# Altium schematic symbol library SCH - DIODES - SCHOTTKY_BAT54WS-7-F.SCHLIB: 1 symbol
Pins are listed as number, name and electrical type; pins without a type are passive.

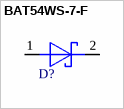
[diagram p0: symbol BAT54WS-7-F]

## BAT54WS-7-F
designator D?  (value not drawn)
Diode, Schottky, 0.1A, 30V; Manufacturer: Diodes Incorporated; Category: schottky; Manufacturer Part Number: BAT54WS-7-F; Package: SOD-323; Supplier 1: Mouser; Supplier Part Number 1: 621-BAT54WS-F; Current: 0.1A; Voltage: 30V; Mounting Style: SMT; Pins: 2; Created: 2020_09_21_MGremer
footprint SOD2513X120N
pins: 1 A, 2 K